# EAGLE library part AD7824 (library oldchips)
4 Channels 8-bit ADC
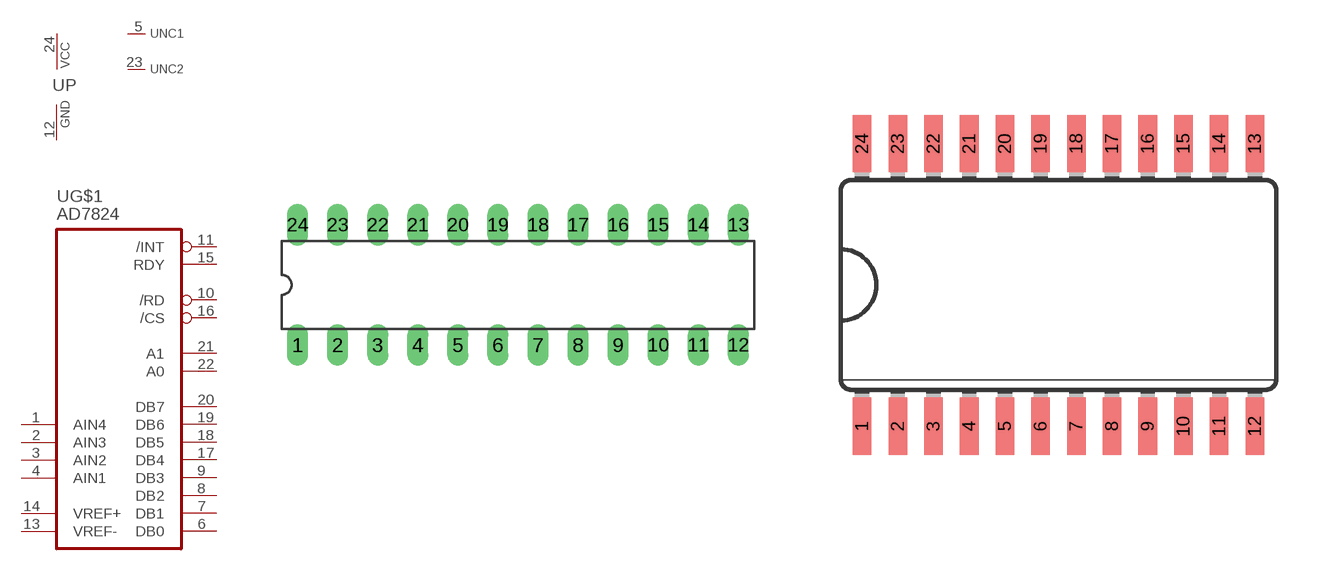
[diagram p13: symbol with the pads of DIL24-3; footprints DIL24-3, SO24W]

Designator prefix U; gates G$1=AD7824 P=PWRN NC1=NC NC2=NC

## AD7824N  [DIL24-3]
1  G$1:AIN4  in
2  G$1:AIN3  in
3  G$1:AIN2  in
4  G$1:AIN1  in
5  NC1:NC  nc
6  G$1:DB0
7  G$1:DB1
8  G$1:DB2
9  G$1:DB3
10  G$1:/RD  in
11  G$1:/INT
12  P:GND  pwr
13  G$1:VREF-  pwr
14  G$1:VREF+  pwr
15  G$1:RDY
16  G$1:/CS  in
17  G$1:DB4
18  G$1:DB5
19  G$1:DB6
20  G$1:DB7
21  G$1:A1  in
22  G$1:A0  in
23  NC2:NC  nc
24  P:VCC  pwr

## AD7824R  [SO24W]
Pads as for DIL24-3

## Footprint DIL24-3 (pad centres in mm)
Dual In Line 0.3 inch
drill 0.813 long: 1 -13.97,-3.81; 2 -11.43,-3.81; 3 -8.89,-3.81; 4 -6.35,-3.81; 5 -3.81,-3.81; 6 -1.27,-3.81; 7 1.27,-3.81; 8 3.81,-3.81; 9 6.35,-3.81; 10 8.89,-3.81; 11 11.43,-3.81; 12 13.97,-3.81; 13 13.97,3.81; 14 11.43,3.81; 15 8.89,3.81; 16 6.35,3.81; 17 3.81,3.81; 18 1.27,3.81; 19 -1.27,3.81; 20 -3.81,3.81; 21 -6.35,3.81; 22 -8.89,3.81; 23 -11.43,3.81; 24 -13.97,3.81

## Footprint SO24W (pad centres in mm)
Wide Small Outline package 300 mil
smd 0.66 x 2.032: 1 -6.985,-5.029; 2 -5.715,-5.029; 3 -4.445,-5.029; 4 -3.175,-5.029; 5 -1.905,-5.029; 6 -0.635,-5.029; 7 0.635,-5.029; 8 1.905,-5.029; 9 3.175,-5.029; 10 4.445,-5.029; 11 5.715,-5.029; 12 6.985,-5.029; 13 6.985,5.029; 14 5.715,5.029; 15 4.445,5.029; 16 3.175,5.029; 17 1.905,5.029; 18 0.635,5.029; 19 -0.635,5.029; 20 -1.905,5.029; 21 -3.175,5.029; 22 -4.445,5.029; 23 -5.715,5.029; 24 -6.985,5.029